# Altium integrated library FT232BL.IntLib: 1 symbol
Pins are listed as number, name and electrical type; pins without a type are passive.

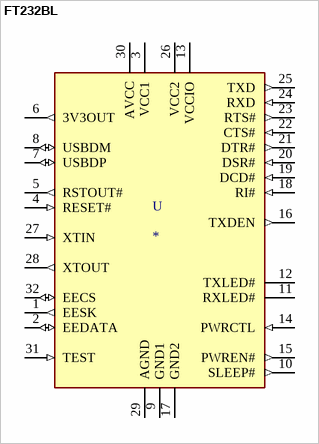
[diagram p0: symbol FT232BL]

## FT232BL
designator U
USB Bridge, USB to UART USB 2.0 UART Interface 32-LQFP _7x7_; MF: FTDI, Future; MP: FT232BL; Package: LQFP-32 FTDI, Future; Value: *; Price: None; Availability: Unavailable; SnapEDA_Link: https://www.snapeda.com/parts/FT232BL/FTDI%2C%20Future%20Technology%20Devices%20International%20Ltd/view-part/108186/?ref=snap
footprint LQFP32
pins: 1 EESK (out), 2 EEDATA (io), 3 VCC1 (power), 4 RESET# (in), 5 RSTOUT# (out), 6 3V3OUT (out), 7 USBDP (io), 8 USBDM (io), 9 GND1 (power), 10 SLEEP# (out), 11 RXLED# (oc), 12 TXLED# (oc), 13 VCCIO (power), 14 PWRCTL (in), 15 PWREN# (out), 16 TXDEN (out), 17 GND2 (power), 18 RI# (in), 19 DCD# (in), 20 DSR# (in), 21 DTR# (out), 22 CTS# (in), 23 RTS# (out), 24 RXD (in), 25 TXD (out), 26 VCC2 (power), 27 XTIN (in), 28 XTOUT (out), 29 AGND (power), 30 AVCC (power), 31 TEST (in), 32 EECS (io)